# Altium footprint library Tank.PcbLib: 288 footprints (part 18 of 18)
Each footprint in its own frame and in the unit in brackets; x right, y up, seen from the top. Pads: shape width x height; smd on the part's side, far side on the other; paste and mask are expansions set on the pad; w line width, h text height; cw(c..) or ccw(c..) is an arc to the next point about the centre after c.
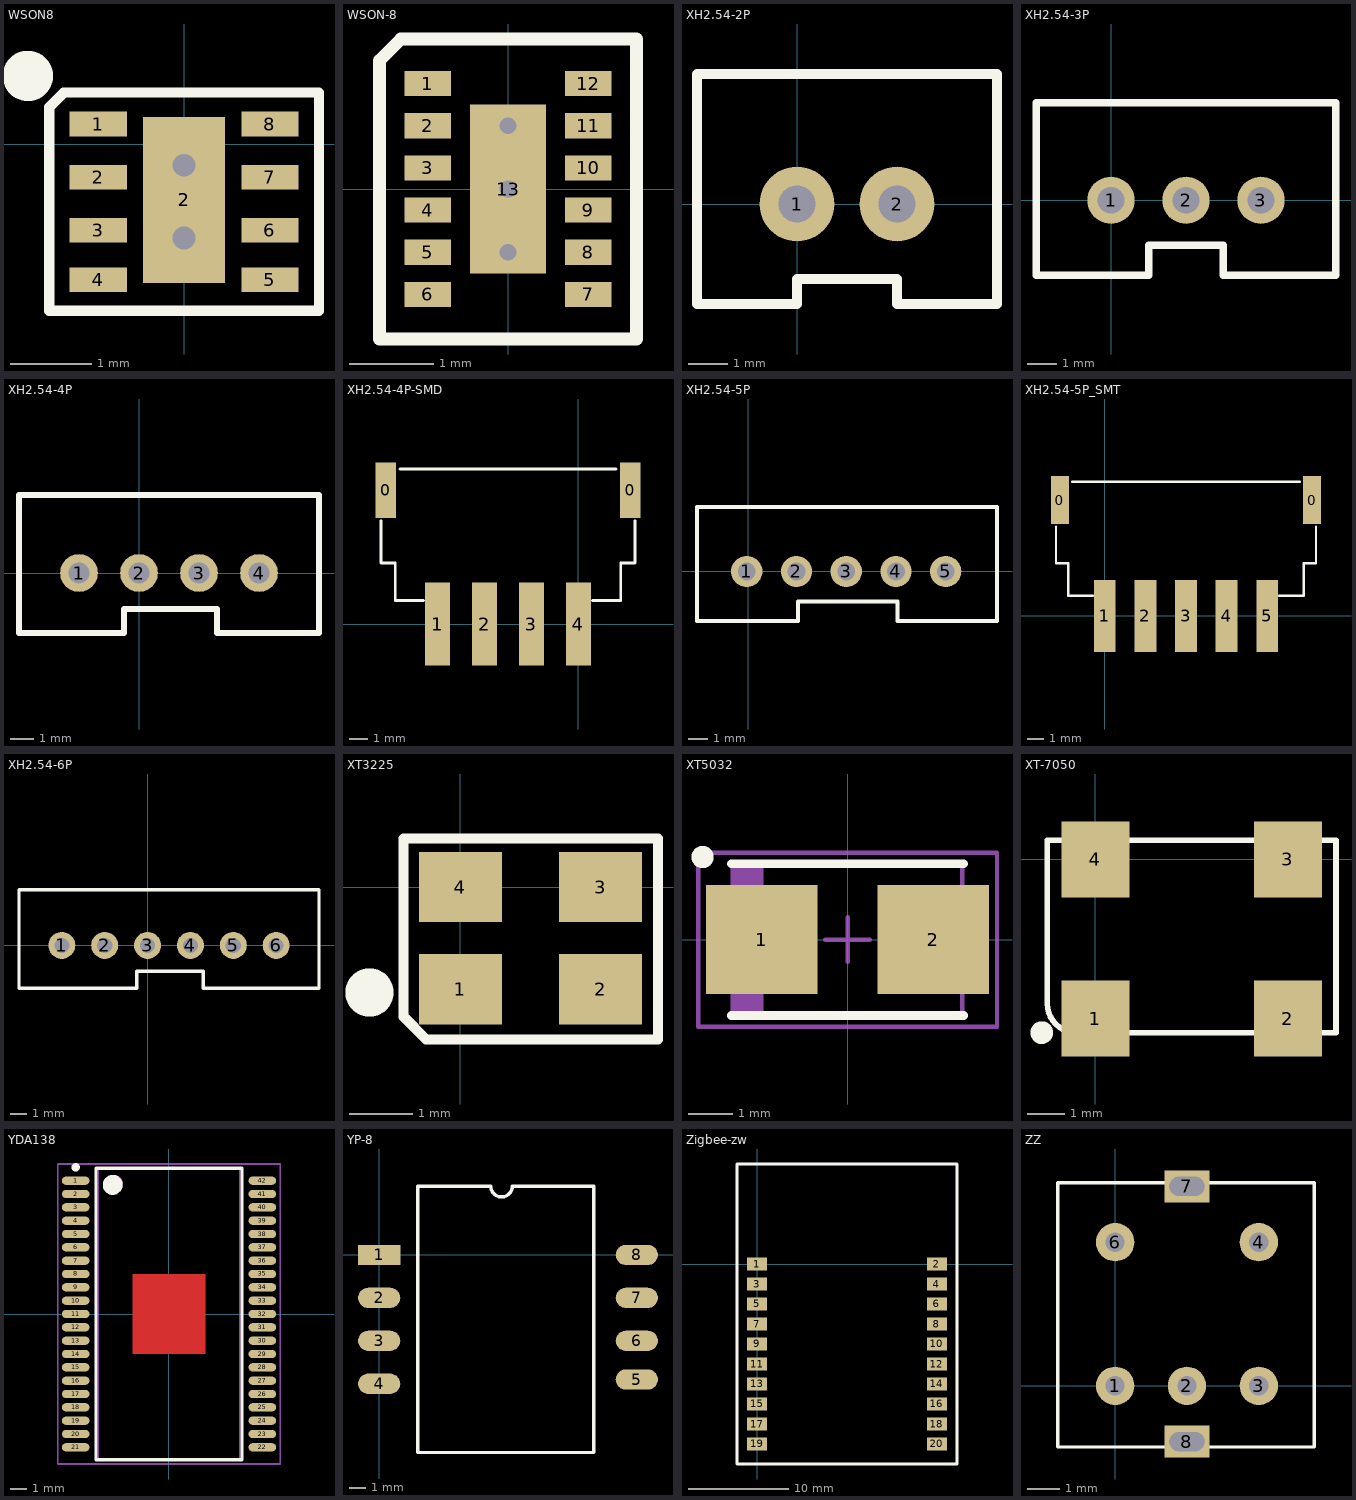
[diagram p17: the footprints below, top view; thin cyan lines are the x and y axes]

## WSON8 [mm] "DRV8837"
height 2
pads (9):
  rect 0.7x0.3 smd: 1(-1.05,0.25) 2(-1.05,-0.4) 3(-1.05,-1.05) 4(-1.05,-1.655) 5(1.05,-1.655) 6(1.05,-1.05) 7(1.05,-0.4) 8(1.05,0.25)
  rect 1x2.032 smd: 2(0,-0.679)
via 0,-0.254 diameter 0.457 hole 0.279
via 0,-1.143 diameter 0.457 hole 0.279
Top Overlay:
  circle w0.4: c-1.911,0.838 r0.108
  lines w0.127: -1.651,-2.036 1.651,-2.036 1.651,0.635 -1.473,0.635 -1.651,0.457 -1.651,-2.036

## WSON-8 [mm]
pads (13):
  rect 0.55x0.3 smd: 1(-0.95,1.25) 2(-0.95,0.75) 3(-0.95,0.25) 4(-0.95,-0.25) 5(-0.95,-0.75) 6(-0.95,-1.25) 7(0.95,-1.25) 8(0.95,-0.75) 9(0.95,-0.25) 10(0.95,0.25) 11(0.95,0.75) 12(0.95,1.25)
  rect 0.9x2 smd: 13(0,0)
via 0,-0.75 diameter 0.25 hole 0.2
via 0,0.75 diameter 0.25 hole 0.2
via 0,0 diameter 0.25 hole 0.2
Top Overlay:
  lines w0.15: -1.524,-1.778 -1.524,1.524 -1.27,1.778 1.524,1.778 1.524,-1.778 -1.524,-1.778

## XH2.54-2P [mm]
pads (2):
  round 1.9 hole 0.95 paste+0: 1(0,0)
  round 1.9 hole 0.95: 2(2.54,0)
Top Overlay:
  lines w0.254: -2.54,-2.54 0,-2.54 0,-1.905 2.54,-1.905 2.54,-2.54 5.08,-2.54 5.08,3.302 -2.54,3.302 -2.54,-2.54

## XH2.54-3P [mil]
pads (3):
  round 63 hole 35.5: 1(0,0) 2(100,0) 3(200,0)
Top Overlay:
  lines w10: -100,-100 50,-100 50,-60 150,-60 150,-100 300,-100 300,130 -100,130 -100,-100

## XH2.54-4P [mil]
pads (4):
  round 63 hole 35.5: 1(-100,0) 2(0,0) 3(100,0) 4(200,0)
Top Overlay:
  lines w10: -200,-100 -25,-100 -25,-60 130,-60 130,-70 130,-90 130,-100 300,-100 300,130 -200,130 -200,-100

## XH2.54-4P-SMD [mm]
pads (6):
  rect 1.1x3 smd: 0(-10.42,7.25) 0(2.8,7.25)
  rect 1.36x4.5 smd: 1(-7.62,0) 2(-5.08,0) 3(-2.54,0) 4(0,0)
Top Overlay:
  lines w0.152: -10.668,5.588 -10.668,3.302 -9.906,3.302 -9.906,1.27 -8.382,1.27 ; -9.652,8.382 2.032,8.382 ; 0.762,1.27 2.286,1.27 2.286,3.302 3.048,3.302 3.048,5.588

## XH2.54-5P [mil]
pads (5):
  round 63 hole 35.5: 1(-3.15,0) 2(96.85,0) 3(196.85,0) 4(296.85,0) 5(396.85,0)
Top Overlay:
  lines w8: -103.15,-100 -103.15,130 500,130 500,-100 300,-100 300,-60 100,-60 100,-100 -103.15,-100

## XH2.54-5P_SMT [mm]
pads (7):
  rect 1.1x3 smd: 0(-2.8,7.25) 0(12.96,7.25)
  rect 1.36x4.5 smd: 1(0,0) 2(2.54,0) 3(5.08,0) 4(7.62,0) 5(10.16,0)
Top Overlay:
  lines w0.152: -3.048,5.588 -3.048,3.302 -2.286,3.302 -2.286,1.27 -0.762,1.27 ; -2.032,8.382 12.192,8.382 ; 10.922,1.27 12.446,1.27 12.446,3.302 13.208,3.302 13.208,5.588

## XH2.54-6P [mil]
pads (6):
  round 63 hole 35.5: 1(-200,0) 2(-100,0) 3(0,0) 4(100,0) 5(200,0) 6(300,0)
Top Overlay:
  lines w8: -300,-100 -25,-100 -25,-60 130,-60 130,-100 400,-100 400,130 -300,130 -300,-100

## XT3225 [mm]
pads (4):
  rect 1.3x1.1 smd: 1(0,-1.6) 2(2.2,-1.6) 3(2.2,0) 4(0,0)
Top Overlay:
  circle w0.4: c-1.424,-1.651 r0.18
  lines w0.16: -0.889,-2.032 -0.889,0.762 3.099,0.762 3.099,-2.388 -0.533,-2.388 -0.889,-2.032

## XT5032 [mm]
height 1.6
pads (2):
  rect 2.5x2.45 smd: 1(-1.925,0) 2(1.925,0)
Top Overlay:
  circle w0.25: c-3.25,1.85 r0.125
  lines w0.2: -2.6,-1.7 2.6,-1.7 ; -2.6,1.7 2.6,1.7
Mechanical 13:
  rectangle: -2.575,-1.675 -1.882,1.675
  lines w0.1: -2.575,-1.675 -2.575,1.675 2.575,1.675 2.575,-1.675 -2.575,-1.675
Mechanical 15:
  lines w0.1: -0.5,0 0.5,0 ; 0,-0.5 0,0.5 ; -3.35,-1.95 -3.35,1.95 3.35,1.95 3.35,-1.95 -3.35,-1.95
3D body: height 1.6, standoff 0, extent -2.575,-1.675 2.575,1.675

## XT-7050 [mm]
pads (4):
  rect 1.8x2 smd: 1(0,-4.2) 2(5.08,-4.2) 3(5.08,0) 4(0,0)
Top Overlay:
  circle w0.3: c-1.42,-4.572 r0.15
  lines w0.152: -1.27,-3.81 ccw(c-0.508,-3.81) -0.508,-4.572 6.35,-4.572 6.35,0.508 -1.27,0.508 -1.27,-3.81

## YDA138 [mm]
height 2.65
pads (42):
  oval 1.65x0.5 smd: 1(-5.6,8) 2(-5.6,7.2) 3(-5.6,6.4) 4(-5.6,5.6) 5(-5.6,4.8) 6(-5.6,4) 7(-5.6,3.2) 8(-5.6,2.4) 9(-5.6,1.6) 10(-5.6,0.8) 11(-5.6,0) 12(-5.6,-0.8) 13(-5.6,-1.6) 14(-5.6,-2.4) 15(-5.6,-3.2) 16(-5.6,-4) 17(-5.6,-4.8) 18(-5.6,-5.6) 19(-5.6,-6.4) 20(-5.6,-7.2) 21(-5.6,-8) 22(5.6,-8) 23(5.6,-7.2) 24(5.6,-6.4) 25(5.6,-5.6) 26(5.6,-4.8) 27(5.6,-4) 28(5.6,-3.2) 29(5.6,-2.4) 30(5.6,-1.6) 31(5.6,-0.8) 32(5.6,0) 33(5.6,0.8) 34(5.6,1.6) 35(5.6,2.4) 36(5.6,3.2) 37(5.6,4) 38(5.6,4.8) 39(5.6,5.6) 40(5.6,6.4) 41(5.6,7.2) 42(5.6,8)
Top Layer:
  rectangle: -2.2,-2.413 2.2,2.413
Top Overlay:
  circle w0.6: c-3.375,7.75 r0.3
  circle w0.25: c-5.6,8.8 r0.125
  lines w0.2: -4.375,-8.75 4.375,-8.75 4.375,8.75 -4.375,8.75 -4.375,-8.75
Top Paste:
  rectangle: -2.2,-1.7 2.2,1.7
Top Solder:
  rectangle: -2.286,-2.54 2.286,2.54
Mechanical 13:
  circle w0.1: c-3.3,7.8 r0.5
  lines w0.1: -4.25,-8.75 4.25,-8.75 4.25,8.75 -4.25,8.75 -4.25,-8.75
Mechanical 15:
  lines w0.1: -0.5,0 0.5,0 ; 0,-0.5 0,0.5 ; -6.675,-9 6.675,-9 6.675,9 -6.675,9 -6.675,-9
3D body: height 2.65, standoff 0.2, extent -4.25,-8.75 4.25,8.75

## YP-8 [mm]
pads (8):
  rect 2.5x1.2 smd: 1(0,0)
  oval 2.5x1.2 smd: 2(0,-2.54) 3(0,-5.08) 4(0,-7.62) 5(15.24,-7.366) 6(15.24,-5.08) 7(15.24,-2.54) 8(15.24,0)
Top Overlay:
  lines w0.2: 2.286,-11.684 12.7,-11.684 12.7,4.064 7.874,4.064 cw(c7.239,4.064) 6.604,4.064 2.286,4.064 2.286,-11.684

## Zigbee-zw [mm]
pads (20):
  rect 2.032x1.3 smd: 1(0,0) 2(18,0) 3(0,-2) 4(18,-2) 5(0,-4) 6(18,-4) 7(0,-6) 8(18,-6) 9(0,-8) 10(18,-8) 11(0,-10) 12(18,-10) 13(0,-12) 14(18,-12) 15(0,-14) 16(18,-14) 17(0,-16) 18(18,-16) 19(0,-18) 20(18,-18)
Top Overlay:
  lines w0.254: -2,-20 -2,10 20,10 20,-20 -2,-20

## ZZ [mm]
pads (7):
  round 1.2 hole 0.6: 1(0,0) 2(2.25,0) 3(4.5,0) 4(4.5,4.5) 6(0,4.5)
  rect 1.4x1 hole 0.6 slot 1.1 at 0 deg: 7(2.25,6.25) 8(2.25,-1.75)
Top Overlay:
  lines w0.1: -1.8,-1.92 -1.8,6.36 6.24,6.36 6.24,-1.92 -1.8,-1.92